# Altium footprint library footprints.PcbLib: 160 footprints (part 3 of 10)
Each footprint in its own frame and in the unit in brackets; x right, y up, seen from the top. Pads: shape width x height; smd on the part's side, far side on the other; paste and mask are expansions set on the pad; w line width, h text height; cw(c..) or ccw(c..) is an arc to the next point about the centre after c.
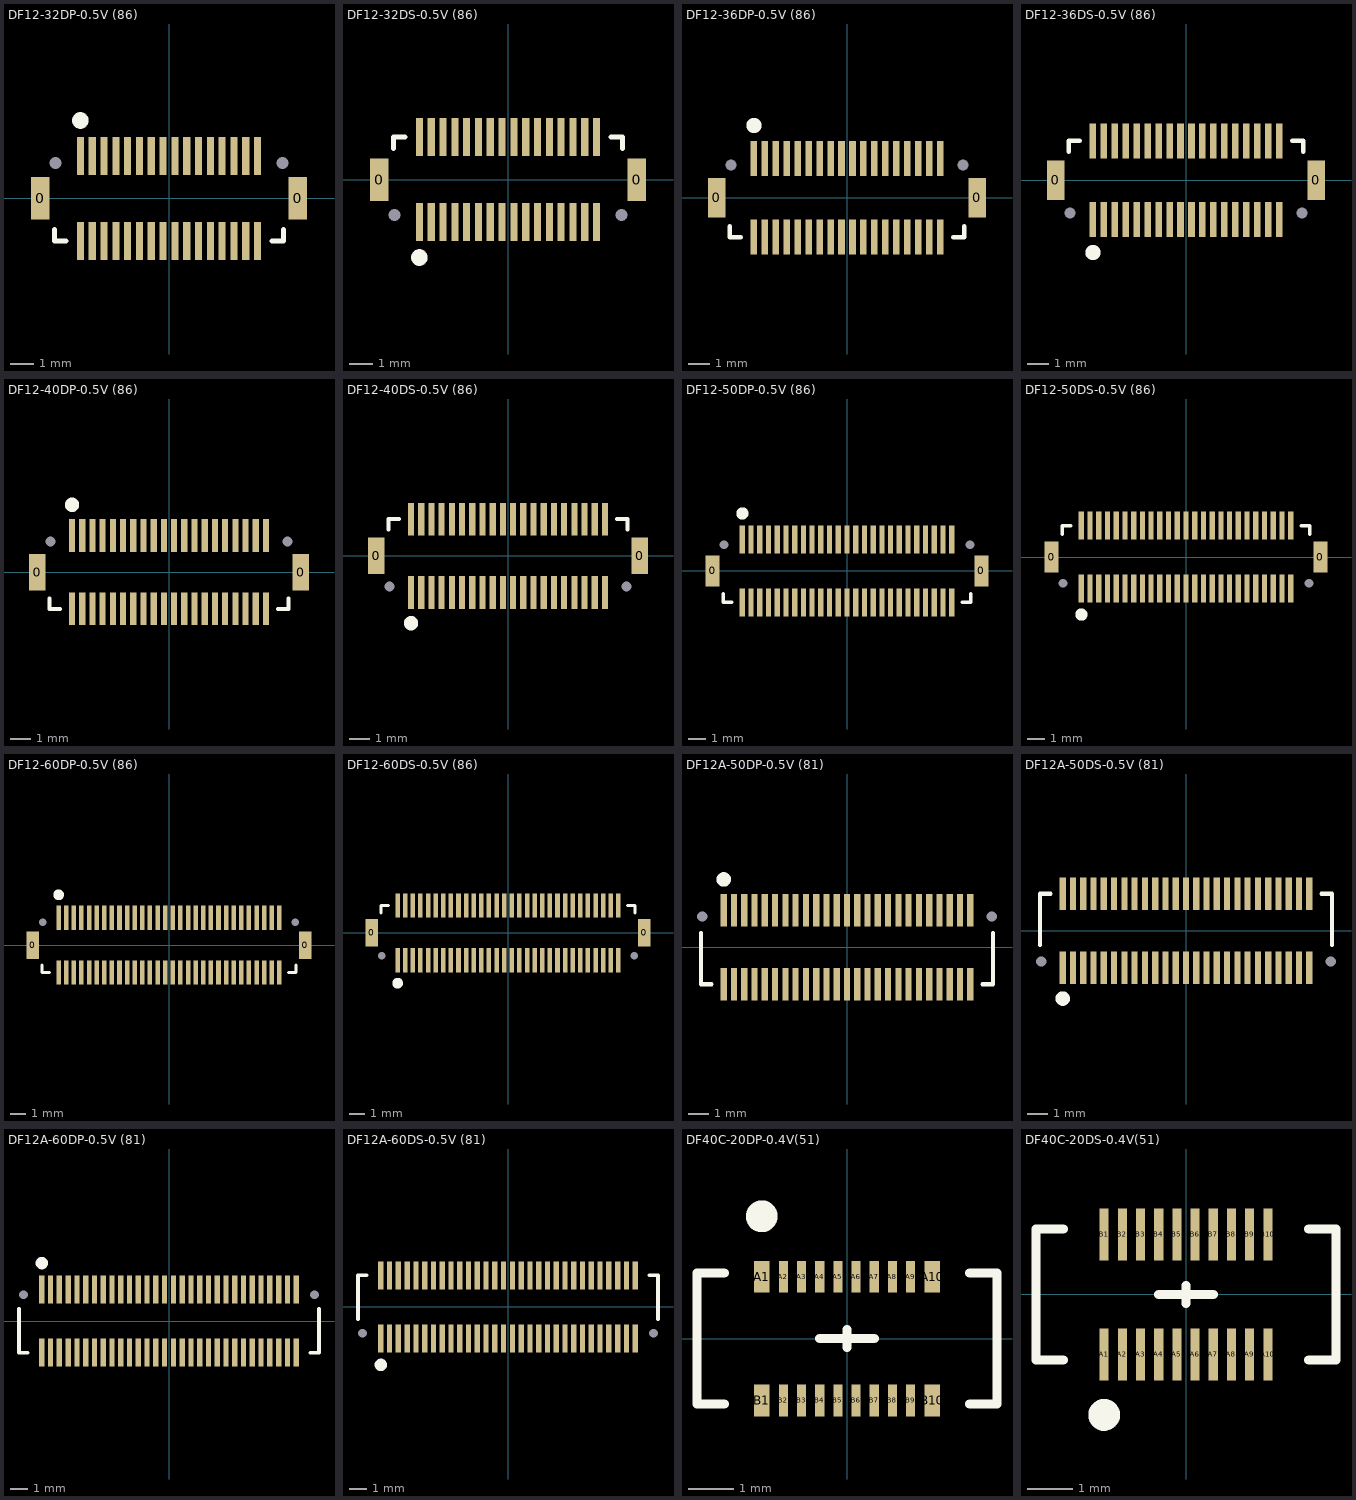
[diagram p2: the footprints below, top view; thin cyan lines are the x and y axes]

## DF12-32DP-0.5V (86) [mm] "board to board header, 0.5mm pitch, 32 pin, with metal fitting"
height 3
pads (36):
  rect 0.8x1.8 smd: 0(-5.45,0) 0(5.45,0)
  round 0 hole 0.5: 0(-4.8,1.5) 0(4.8,1.5)
  rect 0.3x1.6 smd: A1(-3.75,1.8) A2(-3.25,1.8) A3(-2.75,1.8) A4(-2.25,1.8) A5(-1.75,1.8) A6(-1.25,1.8) A7(-0.75,1.8) A8(-0.25,1.8) A9(0.25,1.8) A10(0.75,1.8) A11(1.25,1.8) A12(1.75,1.8) A13(2.25,1.8) A14(2.75,1.8) A15(3.25,1.8) A16(3.75,1.8) B1(-3.75,-1.8) B2(-3.25,-1.8) B3(-2.75,-1.8) B4(-2.25,-1.8) B5(-1.75,-1.8) B6(-1.25,-1.8) B7(-0.75,-1.8) B8(-0.25,-1.8) B9(0.25,-1.8) B10(0.75,-1.8) B11(1.25,-1.8) B12(1.75,-1.8) B13(2.25,-1.8) B14(2.75,-1.8) B15(3.25,-1.8) B16(3.75,-1.8)
Top Overlay:
  circle w0.5: c-3.75,3.3 r0.1
  lines w0.2: -4.85,-1.3 -4.85,-1.8 -4.35,-1.8 ; 4.35,-1.8 4.85,-1.8 4.85,-1.3

## DF12-32DS-0.5V (86) [mm] "board to board receptacle, 0.5mm pitch, 32 pin, with metal fitting"
height 3
pads (36):
  rect 0.8x1.8 smd: 0(-5.45,0) 0(5.45,0)
  round 0 hole 0.5: 0(-4.8,-1.5) 0(4.8,-1.5)
  rect 0.3x1.6 smd: A1(-3.75,-1.8) A2(-3.25,-1.8) A3(-2.75,-1.8) A4(-2.25,-1.8) A5(-1.75,-1.8) A6(-1.25,-1.8) A7(-0.75,-1.8) A8(-0.25,-1.8) A9(0.25,-1.8) A10(0.75,-1.8) A11(1.25,-1.8) A12(1.75,-1.8) A13(2.25,-1.8) A14(2.75,-1.8) A15(3.25,-1.8) A16(3.75,-1.8) B1(-3.75,1.8) B2(-3.25,1.8) B3(-2.75,1.8) B4(-2.25,1.8) B5(-1.75,1.8) B6(-1.25,1.8) B7(-0.75,1.8) B8(-0.25,1.8) B9(0.25,1.8) B10(0.75,1.8) B11(1.25,1.8) B12(1.75,1.8) B13(2.25,1.8) B14(2.75,1.8) B15(3.25,1.8) B16(3.75,1.8)
Top Overlay:
  circle w0.5: c-3.75,-3.3 r0.1
  lines w0.2: -4.85,1.3 -4.85,1.8 -4.35,1.8 ; 4.35,1.8 4.85,1.8 4.85,1.3

## DF12-36DP-0.5V (86) [mm] "board to board header, 0.5mm pitch, 36 pin, with metal fitting"
height 3
pads (40):
  rect 0.8x1.8 smd: 0(-5.95,0) 0(5.95,0)
  round 0 hole 0.5: 0(-5.3,1.5) 0(5.3,1.5)
  rect 0.3x1.6 smd: A1(-4.25,1.8) A2(-3.75,1.8) A3(-3.25,1.8) A4(-2.75,1.8) A5(-2.25,1.8) A6(-1.75,1.8) A7(-1.25,1.8) A8(-0.75,1.8) A9(-0.25,1.8) A10(0.25,1.8) A11(0.75,1.8) A12(1.25,1.8) A13(1.75,1.8) A14(2.25,1.8) A15(2.75,1.8) A16(3.25,1.8) A17(3.75,1.8) A18(4.25,1.8) B1(-4.25,-1.8) B2(-3.75,-1.8) B3(-3.25,-1.8) B4(-2.75,-1.8) B5(-2.25,-1.8) B6(-1.75,-1.8) B7(-1.25,-1.8) B8(-0.75,-1.8) B9(-0.25,-1.8) B10(0.25,-1.8) B11(0.75,-1.8) B12(1.25,-1.8) B13(1.75,-1.8) B14(2.25,-1.8) B15(2.75,-1.8) B16(3.25,-1.8) B17(3.75,-1.8) B18(4.25,-1.8)
Top Overlay:
  circle w0.5: c-4.25,3.3 r0.1
  lines w0.2: -5.35,-1.3 -5.35,-1.8 -4.85,-1.8 ; 4.85,-1.8 5.35,-1.8 5.35,-1.3

## DF12-36DS-0.5V (86) [mm] "board to board receptacle, 0.5mm pitch, 36 pin, with metal fitting"
height 3
pads (40):
  rect 0.8x1.8 smd: 0(-5.95,0) 0(5.95,0)
  round 0 hole 0.5: 0(-5.3,-1.5) 0(5.3,-1.5)
  rect 0.3x1.6 smd: A1(-4.25,-1.8) A2(-3.75,-1.8) A3(-3.25,-1.8) A4(-2.75,-1.8) A5(-2.25,-1.8) A6(-1.75,-1.8) A7(-1.25,-1.8) A8(-0.75,-1.8) A9(-0.25,-1.8) A10(0.25,-1.8) A11(0.75,-1.8) A12(1.25,-1.8) A13(1.75,-1.8) A14(2.25,-1.8) A15(2.75,-1.8) A16(3.25,-1.8) A17(3.75,-1.8) A18(4.25,-1.8) B1(-4.25,1.8) B2(-3.75,1.8) B3(-3.25,1.8) B4(-2.75,1.8) B5(-2.25,1.8) B6(-1.75,1.8) B7(-1.25,1.8) B8(-0.75,1.8) B9(-0.25,1.8) B10(0.25,1.8) B11(0.75,1.8) B12(1.25,1.8) B13(1.75,1.8) B14(2.25,1.8) B15(2.75,1.8) B16(3.25,1.8) B17(3.75,1.8) B18(4.25,1.8)
Top Overlay:
  circle w0.5: c-4.25,-3.3 r0.1
  lines w0.2: -5.35,1.3 -5.35,1.8 -4.85,1.8 ; 4.85,1.8 5.35,1.8 5.35,1.3

## DF12-40DP-0.5V (86) [mm] "board to board header, 0.5mm pitch, 40 pin, with metal fitting"
height 3
pads (44):
  rect 0.8x1.8 smd: 0(-6.45,0) 0(6.45,0)
  round 0 hole 0.5: 0(-5.8,1.5) 0(5.8,1.5)
  rect 0.3x1.6 smd: A1(-4.75,1.8) A2(-4.25,1.8) A3(-3.75,1.8) A4(-3.25,1.8) A5(-2.75,1.8) A6(-2.25,1.8) A7(-1.75,1.8) A8(-1.25,1.8) A9(-0.75,1.8) A10(-0.25,1.8) A11(0.25,1.8) A12(0.75,1.8) A13(1.25,1.8) A14(1.75,1.8) A15(2.25,1.8) A16(2.75,1.8) A17(3.25,1.8) A18(3.75,1.8) A19(4.25,1.8) A20(4.75,1.8) B1(-4.75,-1.8) B2(-4.25,-1.8) B3(-3.75,-1.8) B4(-3.25,-1.8) B5(-2.75,-1.8) B6(-2.25,-1.8) B7(-1.75,-1.8) B8(-1.25,-1.8) B9(-0.75,-1.8) B10(-0.25,-1.8) B11(0.25,-1.8) B12(0.75,-1.8) B13(1.25,-1.8) B14(1.75,-1.8) B15(2.25,-1.8) B16(2.75,-1.8) B17(3.25,-1.8) B18(3.75,-1.8) B19(4.25,-1.8) B20(4.75,-1.8)
Top Overlay:
  circle w0.5: c-4.75,3.3 r0.1
  lines w0.2: -5.85,-1.3 -5.85,-1.8 -5.35,-1.8 ; 5.35,-1.8 5.85,-1.8 5.85,-1.3

## DF12-40DS-0.5V (86) [mm] "board to board receptacle 0.5mm pitch, 40 pin, with metal fitting"
height 3
pads (44):
  rect 0.8x1.8 smd: 0(-6.45,0) 0(6.45,0)
  round 0 hole 0.5: 0(-5.8,-1.5) 0(5.8,-1.5)
  rect 0.3x1.6 smd: A1(-4.75,-1.8) A2(-4.25,-1.8) A3(-3.75,-1.8) A4(-3.25,-1.8) A5(-2.75,-1.8) A6(-2.25,-1.8) A7(-1.75,-1.8) A8(-1.25,-1.8) A9(-0.75,-1.8) A10(-0.25,-1.8) A11(0.25,-1.8) A12(0.75,-1.8) A13(1.25,-1.8) A14(1.75,-1.8) A15(2.25,-1.8) A16(2.75,-1.8) A17(3.25,-1.8) A18(3.75,-1.8) A19(4.25,-1.8) A20(4.75,-1.8) B1(-4.75,1.8) B2(-4.25,1.8) B3(-3.75,1.8) B4(-3.25,1.8) B5(-2.75,1.8) B6(-2.25,1.8) B7(-1.75,1.8) B8(-1.25,1.8) B9(-0.75,1.8) B10(-0.25,1.8) B11(0.25,1.8) B12(0.75,1.8) B13(1.25,1.8) B14(1.75,1.8) B15(2.25,1.8) B16(2.75,1.8) B17(3.25,1.8) B18(3.75,1.8) B19(4.25,1.8) B20(4.75,1.8)
Top Overlay:
  circle w0.5: c-4.75,-3.3 r0.1
  lines w0.2: -5.85,1.3 -5.85,1.8 -5.35,1.8 ; 5.35,1.8 5.85,1.8 5.85,1.3

## DF12-50DP-0.5V (86) [mm] "board to board header, 0.5mm pitch, 50 pin, with metal fitting"
height 3
pads (54):
  rect 0.8x1.8 smd: 0(-7.7,0) 0(7.7,0)
  round 0 hole 0.5: 0(-7.05,1.5) 0(7.05,1.5)
  rect 0.3x1.6 smd: A1(-6,1.8) A2(-5.5,1.8) A3(-5,1.8) A4(-4.5,1.8) A5(-4,1.8) A6(-3.5,1.8) A7(-3,1.8) A8(-2.5,1.8) A9(-2,1.8) A10(-1.5,1.8) A11(-1,1.8) A12(-0.5,1.8) A13(0,1.8) A14(0.5,1.8) A15(1,1.8) A16(1.5,1.8) A17(2,1.8) A18(2.5,1.8) A19(3,1.8) A20(3.5,1.8) A21(4,1.8) A22(4.5,1.8) A23(5,1.8) A24(5.5,1.8) A25(6,1.8) B1(-6,-1.8) B2(-5.5,-1.8) B3(-5,-1.8) B4(-4.5,-1.8) B5(-4,-1.8) B6(-3.5,-1.8) B7(-3,-1.8) B8(-2.5,-1.8) B9(-2,-1.8) B10(-1.5,-1.8) B11(-1,-1.8) B12(-0.5,-1.8) B13(0,-1.8) B14(0.5,-1.8) B15(1,-1.8) B16(1.5,-1.8) B17(2,-1.8) B18(2.5,-1.8) B19(3,-1.8) B20(3.5,-1.8) B21(4,-1.8) B22(4.5,-1.8) B23(5,-1.8) B24(5.5,-1.8) B25(6,-1.8)
Top Overlay:
  circle w0.5: c-6,3.3 r0.1
  lines w0.2: -7.1,-1.3 -7.1,-1.8 -6.6,-1.8 ; 6.6,-1.8 7.1,-1.8 7.1,-1.3

## DF12-50DS-0.5V (86) [mm] "board to board receptacle, 0.5mm pitch, 50 pin, with metal fitting"
height 3
pads (54):
  rect 0.8x1.8 smd: 0(-7.7,0) 0(7.7,0)
  round 0 hole 0.5: 0(-7.05,-1.5) 0(7.05,-1.5)
  rect 0.3x1.6 smd: A1(-6,-1.8) A2(-5.5,-1.8) A3(-5,-1.8) A4(-4.5,-1.8) A5(-4,-1.8) A6(-3.5,-1.8) A7(-3,-1.8) A8(-2.5,-1.8) A9(-2,-1.8) A10(-1.5,-1.8) A11(-1,-1.8) A12(-0.5,-1.8) A13(0,-1.8) A14(0.5,-1.8) A15(1,-1.8) A16(1.5,-1.8) A17(2,-1.8) A18(2.5,-1.8) A19(3,-1.8) A20(3.5,-1.8) A21(4,-1.8) A22(4.5,-1.8) A23(5,-1.8) A24(5.5,-1.8) A25(6,-1.8) B1(-6,1.8) B2(-5.5,1.8) B3(-5,1.8) B4(-4.5,1.8) B5(-4,1.8) B6(-3.5,1.8) B7(-3,1.8) B8(-2.5,1.8) B9(-2,1.8) B10(-1.5,1.8) B11(-1,1.8) B12(-0.5,1.8) B13(0,1.8) B14(0.5,1.8) B15(1,1.8) B16(1.5,1.8) B17(2,1.8) B18(2.5,1.8) B19(3,1.8) B20(3.5,1.8) B21(4,1.8) B22(4.5,1.8) B23(5,1.8) B24(5.5,1.8) B25(6,1.8)
Top Overlay:
  circle w0.5: c-6,-3.3 r0.1
  lines w0.2: -7.1,1.3 -7.1,1.8 -6.6,1.8 ; 6.6,1.8 7.1,1.8 7.1,1.3

## DF12-60DP-0.5V (86) [mm] "board to board header, 0.5mm pitch, 60 pin, with metal fitting"
pads (64):
  rect 0.8x1.8 smd: 0(-8.95,0) 0(8.95,0)
  round 0 hole 0.5: 0(-8.3,1.5) 0(8.3,1.5)
  rect 0.3x1.6 smd: A1(-7.25,1.8) A2(-6.75,1.8) A3(-6.25,1.8) A4(-5.75,1.8) A5(-5.25,1.8) A6(-4.75,1.8) A7(-4.25,1.8) A8(-3.75,1.8) A9(-3.25,1.8) A10(-2.75,1.8) A11(-2.25,1.8) A12(-1.75,1.8) A13(-1.25,1.8) A14(-0.75,1.8) A15(-0.25,1.8) A16(0.25,1.8) A17(0.75,1.8) A18(1.25,1.8) A19(1.75,1.8) A20(2.25,1.8) A21(2.75,1.8) A22(3.25,1.8) A23(3.75,1.8) A24(4.25,1.8) A25(4.75,1.8) A26(5.25,1.8) A27(5.75,1.8) A28(6.25,1.8) A29(6.75,1.8) A30(7.25,1.8) B1(-7.25,-1.8) B2(-6.75,-1.8) B3(-6.25,-1.8) B4(-5.75,-1.8) B5(-5.25,-1.8) B6(-4.75,-1.8) B7(-4.25,-1.8) B8(-3.75,-1.8) B9(-3.25,-1.8) B10(-2.75,-1.8) B11(-2.25,-1.8) B12(-1.75,-1.8) B13(-1.25,-1.8) B14(-0.75,-1.8) B15(-0.25,-1.8) B16(0.25,-1.8) B17(0.75,-1.8) B18(1.25,-1.8) B19(1.75,-1.8) B20(2.25,-1.8) B21(2.75,-1.8) B22(3.25,-1.8) B23(3.75,-1.8) B24(4.25,-1.8) B25(4.75,-1.8) B26(5.25,-1.8) B27(5.75,-1.8) B28(6.25,-1.8) B29(6.75,-1.8) B30(7.25,-1.8)
Top Overlay:
  circle w0.5: c-7.25,3.3 r0.1
  lines w0.2: -8.35,-1.3 -8.35,-1.8 -7.85,-1.8 ; 7.85,-1.8 8.35,-1.8 8.35,-1.3

## DF12-60DS-0.5V (86) [mm] "board to board receptacle, 0.5mm pitch, 60 pin, with metal fitting"
pads (64):
  rect 0.8x1.8 smd: 0(-8.95,0) 0(8.95,0)
  round 0 hole 0.5: 0(-8.3,-1.5) 0(8.3,-1.5)
  rect 0.3x1.6 smd: A1(-7.25,-1.8) A2(-6.75,-1.8) A3(-6.25,-1.8) A4(-5.75,-1.8) A5(-5.25,-1.8) A6(-4.75,-1.8) A7(-4.25,-1.8) A8(-3.75,-1.8) A9(-3.25,-1.8) A10(-2.75,-1.8) A11(-2.25,-1.8) A12(-1.75,-1.8) A13(-1.25,-1.8) A14(-0.75,-1.8) A15(-0.25,-1.8) A16(0.25,-1.8) A17(0.75,-1.8) A18(1.25,-1.8) A19(1.75,-1.8) A20(2.25,-1.8) A21(2.75,-1.8) A22(3.25,-1.8) A23(3.75,-1.8) A24(4.25,-1.8) A25(4.75,-1.8) A26(5.25,-1.8) A27(5.75,-1.8) A28(6.25,-1.8) A29(6.75,-1.8) A30(7.25,-1.8) B1(-7.25,1.8) B2(-6.75,1.8) B3(-6.25,1.8) B4(-5.75,1.8) B5(-5.25,1.8) B6(-4.75,1.8) B7(-4.25,1.8) B8(-3.75,1.8) B9(-3.25,1.8) B10(-2.75,1.8) B11(-2.25,1.8) B12(-1.75,1.8) B13(-1.25,1.8) B14(-0.75,1.8) B15(-0.25,1.8) B16(0.25,1.8) B17(0.75,1.8) B18(1.25,1.8) B19(1.75,1.8) B20(2.25,1.8) B21(2.75,1.8) B22(3.25,1.8) B23(3.75,1.8) B24(4.25,1.8) B25(4.75,1.8) B26(5.25,1.8) B27(5.75,1.8) B28(6.25,1.8) B29(6.75,1.8) B30(7.25,1.8)
Top Overlay:
  circle w0.5: c-7.25,-3.3 r0.1
  lines w0.2: -8.35,1.3 -8.35,1.8 -7.85,1.8 ; 7.85,1.8 8.35,1.8 8.35,1.3

## DF12A-50DP-0.5V (81) [mm] "board to board header, 0.5mm pitch, 50 pin"
height 3
pads (52):
  round 0 hole 0.5: 0(-7.05,1.5) 0(7.05,1.5)
  rect 0.3x1.6 smd: A1(-6,1.8) A2(-5.5,1.8) A3(-5,1.8) A4(-4.5,1.8) A5(-4,1.8) A6(-3.5,1.8) A7(-3,1.8) A8(-2.5,1.8) A9(-2,1.8) A10(-1.5,1.8) A11(-1,1.8) A12(-0.5,1.8) A13(0,1.8) A14(0.5,1.8) A15(1,1.8) A16(1.5,1.8) A17(2,1.8) A18(2.5,1.8) A19(3,1.8) A20(3.5,1.8) A21(4,1.8) A22(4.5,1.8) A23(5,1.8) A24(5.5,1.8) A25(6,1.8) B1(-6,-1.8) B2(-5.5,-1.8) B3(-5,-1.8) B4(-4.5,-1.8) B5(-4,-1.8) B6(-3.5,-1.8) B7(-3,-1.8) B8(-2.5,-1.8) B9(-2,-1.8) B10(-1.5,-1.8) B11(-1,-1.8) B12(-0.5,-1.8) B13(0,-1.8) B14(0.5,-1.8) B15(1,-1.8) B16(1.5,-1.8) B17(2,-1.8) B18(2.5,-1.8) B19(3,-1.8) B20(3.5,-1.8) B21(4,-1.8) B22(4.5,-1.8) B23(5,-1.8) B24(5.5,-1.8) B25(6,-1.8)
Top Overlay:
  circle w0.5: c-6,3.3 r0.1
  lines w0.2: -7.1,0.7 -7.1,-1.8 -6.6,-1.8 ; 6.6,-1.8 7.1,-1.8 7.1,0.7

## DF12A-50DS-0.5V (81) [mm] "board to board header, 0.5mm pitch, 50 pin"
height 3
pads (52):
  round 0 hole 0.5: 0(-7.05,-1.5) 0(7.05,-1.5)
  rect 0.3x1.6 smd: A1(-6,-1.8) A2(-5.5,-1.8) A3(-5,-1.8) A4(-4.5,-1.8) A5(-4,-1.8) A6(-3.5,-1.8) A7(-3,-1.8) A8(-2.5,-1.8) A9(-2,-1.8) A10(-1.5,-1.8) A11(-1,-1.8) A12(-0.5,-1.8) A13(0,-1.8) A14(0.5,-1.8) A15(1,-1.8) A16(1.5,-1.8) A17(2,-1.8) A18(2.5,-1.8) A19(3,-1.8) A20(3.5,-1.8) A21(4,-1.8) A22(4.5,-1.8) A23(5,-1.8) A24(5.5,-1.8) A25(6,-1.8) B1(-6,1.8) B2(-5.5,1.8) B3(-5,1.8) B4(-4.5,1.8) B5(-4,1.8) B6(-3.5,1.8) B7(-3,1.8) B8(-2.5,1.8) B9(-2,1.8) B10(-1.5,1.8) B11(-1,1.8) B12(-0.5,1.8) B13(0,1.8) B14(0.5,1.8) B15(1,1.8) B16(1.5,1.8) B17(2,1.8) B18(2.5,1.8) B19(3,1.8) B20(3.5,1.8) B21(4,1.8) B22(4.5,1.8) B23(5,1.8) B24(5.5,1.8) B25(6,1.8)
Top Overlay:
  circle w0.5: c-6,-3.3 r0.1
  lines w0.2: -7.1,-0.7 -7.1,1.8 -6.6,1.8 ; 6.6,1.8 7.1,1.8 7.1,-0.7

## DF12A-60DP-0.5V (81) [mm] "board to board header, 0.5mm pitch, 60 pin"
pads (62):
  round 0 hole 0.5: 0(-8.3,1.5) 0(8.3,1.5)
  rect 0.3x1.6 smd: A1(-7.25,1.8) A2(-6.75,1.8) A3(-6.25,1.8) A4(-5.75,1.8) A5(-5.25,1.8) A6(-4.75,1.8) A7(-4.25,1.8) A8(-3.75,1.8) A9(-3.25,1.8) A10(-2.75,1.8) A11(-2.25,1.8) A12(-1.75,1.8) A13(-1.25,1.8) A14(-0.75,1.8) A15(-0.25,1.8) A16(0.25,1.8) A17(0.75,1.8) A18(1.25,1.8) A19(1.75,1.8) A20(2.25,1.8) A21(2.75,1.8) A22(3.25,1.8) A23(3.75,1.8) A24(4.25,1.8) A25(4.75,1.8) A26(5.25,1.8) A27(5.75,1.8) A28(6.25,1.8) A29(6.75,1.8) A30(7.25,1.8) B1(-7.25,-1.8) B2(-6.75,-1.8) B3(-6.25,-1.8) B4(-5.75,-1.8) B5(-5.25,-1.8) B6(-4.75,-1.8) B7(-4.25,-1.8) B8(-3.75,-1.8) B9(-3.25,-1.8) B10(-2.75,-1.8) B11(-2.25,-1.8) B12(-1.75,-1.8) B13(-1.25,-1.8) B14(-0.75,-1.8) B15(-0.25,-1.8) B16(0.25,-1.8) B17(0.75,-1.8) B18(1.25,-1.8) B19(1.75,-1.8) B20(2.25,-1.8) B21(2.75,-1.8) B22(3.25,-1.8) B23(3.75,-1.8) B24(4.25,-1.8) B25(4.75,-1.8) B26(5.25,-1.8) B27(5.75,-1.8) B28(6.25,-1.8) B29(6.75,-1.8) B30(7.25,-1.8)
Top Overlay:
  circle w0.5: c-7.25,3.3 r0.1
  lines w0.2: -8.55,0.7 -8.55,-1.8 -8.05,-1.8 ; 8.05,-1.8 8.55,-1.8 8.55,0.7

## DF12A-60DS-0.5V (81) [mm] "board to board receptacle, 0.5mm pitch, 60 pin"
pads (62):
  round 0 hole 0.5: 0(-8.3,-1.5) 0(8.3,-1.5)
  rect 0.3x1.6 smd: A1(-7.25,-1.8) A2(-6.75,-1.8) A3(-6.25,-1.8) A4(-5.75,-1.8) A5(-5.25,-1.8) A6(-4.75,-1.8) A7(-4.25,-1.8) A8(-3.75,-1.8) A9(-3.25,-1.8) A10(-2.75,-1.8) A11(-2.25,-1.8) A12(-1.75,-1.8) A13(-1.25,-1.8) A14(-0.75,-1.8) A15(-0.25,-1.8) A16(0.25,-1.8) A17(0.75,-1.8) A18(1.25,-1.8) A19(1.75,-1.8) A20(2.25,-1.8) A21(2.75,-1.8) A22(3.25,-1.8) A23(3.75,-1.8) A24(4.25,-1.8) A25(4.75,-1.8) A26(5.25,-1.8) A27(5.75,-1.8) A28(6.25,-1.8) A29(6.75,-1.8) A30(7.25,-1.8) B1(-7.25,1.8) B2(-6.75,1.8) B3(-6.25,1.8) B4(-5.75,1.8) B5(-5.25,1.8) B6(-4.75,1.8) B7(-4.25,1.8) B8(-3.75,1.8) B9(-3.25,1.8) B10(-2.75,1.8) B11(-2.25,1.8) B12(-1.75,1.8) B13(-1.25,1.8) B14(-0.75,1.8) B15(-0.25,1.8) B16(0.25,1.8) B17(0.75,1.8) B18(1.25,1.8) B19(1.75,1.8) B20(2.25,1.8) B21(2.75,1.8) B22(3.25,1.8) B23(3.75,1.8) B24(4.25,1.8) B25(4.75,1.8) B26(5.25,1.8) B27(5.75,1.8) B28(6.25,1.8) B29(6.75,1.8) B30(7.25,1.8)
Top Overlay:
  circle w0.5: c-7.25,-3.3 r0.1
  lines w0.2: -8.55,-0.7 -8.55,1.8 -8.05,1.8 ; 8.05,1.8 8.55,1.8 8.55,-0.7

## DF40C-20DP-0.4V(51) [mm] "Board to Board Header 20 pin"
height 1.14
pads (20):
  rect 0.35x0.7 smd: A1(-1.875,1.36) A10(1.875,1.36) B1(-1.875,-1.36) B10(1.875,-1.36)
  rect 0.2x0.7 smd: A2(-1.4,1.36) A3(-1,1.36) A4(-0.6,1.36) A5(-0.2,1.36) A6(0.2,1.36) A7(0.6,1.36) A8(1,1.36) A9(1.4,1.36) B2(-1.4,-1.36) B3(-1,-1.36) B4(-0.6,-1.36) B5(-0.2,-1.36) B6(0.2,-1.36) B7(0.6,-1.36) B8(1,-1.36) B9(1.4,-1.36)
Top Overlay:
  circle w0.5: c-1.875,2.69 r0.1
  lines w0.2: -2.7,-1.44 -3.3,-1.44 -3.3,1.44 -2.7,1.44 ; -0.6,0 0,0 ; 0,-0.2 0,0 ; 0,0.2 0,0 ; 0.6,0 0,0 ; 2.7,-1.44 3.3,-1.44 3.3,1.44 2.7,1.44

## DF40C-20DS-0.4V(51) [mm] "Board-to-Board Receptacle 20 pin"
pads (20):
  rect 0.2x1.14 smd: A1(-1.8,-1.32) A2(-1.4,-1.32) A3(-1,-1.32) A4(-0.6,-1.32) A5(-0.2,-1.32) A6(0.2,-1.32) A7(0.6,-1.32) A8(1,-1.32) A9(1.4,-1.32) A10(1.8,-1.32) B1(-1.8,1.32) B2(-1.4,1.32) B3(-1,1.32) B4(-0.6,1.32) B5(-0.2,1.32) B6(0.2,1.32) B7(0.6,1.32) B8(1,1.32) B9(1.4,1.32) B10(1.8,1.32)
Top Overlay:
  circle w0.5: c-1.8,-2.65 r0.1
  lines w0.2: -2.7,-1.44 -3.3,-1.44 -3.3,1.44 -2.7,1.44 ; -0.6,0 0,0 ; 0,-0.2 0,0 ; 0,0.2 0,0 ; 0.6,0 0,0 ; 2.7,-1.44 3.3,-1.44 3.3,1.44 2.7,1.44